# Altium schematic symbol library LDL212PUR.Schlib: 1 symbol
Pins are listed as number, name and electrical type; pins without a type are passive.

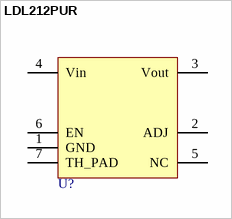
[diagram p0: symbol LDL212PUR]

## LDL212PUR
designator U?
1.2A, 2.5V-18V, Linear Voltage Regulator
pins: 1 GND, 2 ADJ, 3 Vout, 4 Vin, 5 NC, 6 EN, 7 TH_PAD